# Altium schematic symbol library usb_a_3.0_x1.SchLib: 1 symbol
Pins are listed as number, name and electrical type; pins without a type are passive.

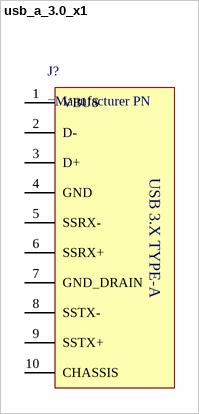
[diagram p0: symbol usb_a_3.0_x1]

## usb_a_3.0_x1
designator J?
pins: 1 VBUS, 2 D-, 3 D+, 4 GND, 5 SSRX-, 6 SSRX+, 7 GND_DRAIN, 8 SSTX-, 9 SSTX+, 10 CHASSIS
text: USB 3.X TYPE-A